# Altium footprint library QUTMS_CANLibrary.PcbLib: 5 footprints
Each footprint in its own frame and in the unit in brackets; x right, y up, seen from the top. Pads: shape width x height; smd on the part's side, far side on the other; paste and mask are expansions set on the pad; w line width, h text height; cw(c..) or ccw(c..) is an arc to the next point about the centre after c.
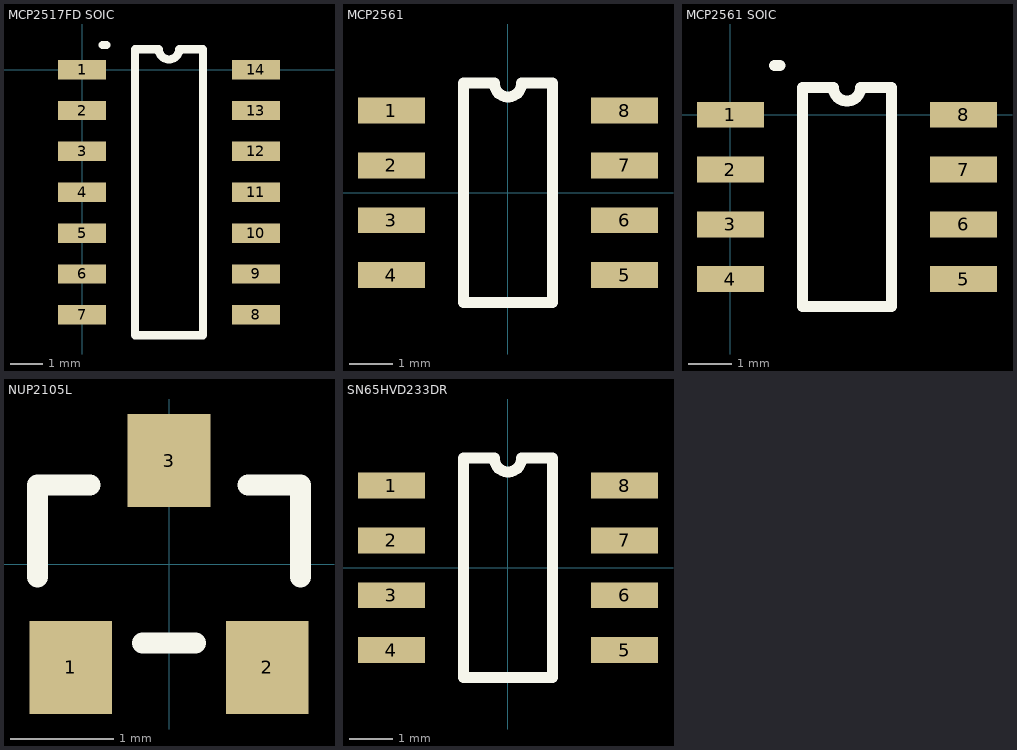
[diagram p0: the footprints below, top view; thin cyan lines are the x and y axes]

## MCP2517FD SOIC [mm]
height 1.75
pads (14):
  rect 1.5x0.6 smd: 1(0,0) 2(0,-1.27) 3(0,-2.54) 4(0,-3.81) 5(0,-5.08) 6(0,-6.35) 7(0,-7.62) 8(5.4,-7.62) 9(5.4,-6.35) 10(5.4,-5.08) 11(5.4,-3.81) 12(5.4,-2.54) 13(5.4,-1.27) 14(5.4,0)
Top Overlay:
  lines w0.254: 0.635,0.762 0.762,0.762 ; 1.639,-8.255 3.761,-8.255 3.761,0.635 3.017,0.635 cw(c2.7,0.635) 2.382,0.635 1.639,0.635 1.639,-8.255
3D body: height 1.74, standoff 0.25, extent 0.742,-8.135 4.642,0.515
3D body: height 0.25, standoff -14.95, extent 0.889,-6.35 0.889,-6.35

## MCP2561 [mm]
pads (8):
  rect 1.55x0.6 smd: 1(-2.7,1.903) 2(-2.7,0.633) 3(-2.7,-0.637) 4(-2.7,-1.907) 5(2.7,-1.907) 6(2.7,-0.637) 7(2.7,0.633) 8(2.7,1.903)
Top Overlay:
  lines w0.254: -1.036,-2.542 1.036,-2.542 1.036,2.538 0.318,2.538 cw(c0,2.538) -0.317,2.538 -1.036,2.538 -1.036,-2.542
3D body "D0008A.stp": height 1.63, standoff 0, extent -3.011,-2.451 3.011,2.451

## MCP2561 SOIC [mm]
pads (8):
  rect 1.55x0.6 smd: 1(0,0) 2(0,-1.27) 3(0,-2.54) 4(0,-3.81) 5(5.4,-3.81) 6(5.4,-2.54) 7(5.4,-1.27) 8(5.4,0)
Top Overlay:
  lines w0.254: 1.016,1.143 1.143,1.143 ; 1.664,-4.445 1.664,-3.175 1.664,-0.635 1.664,0.635 2.382,0.635 ccw(c2.7,0.635) 3.017,0.635 3.736,0.635 3.736,-4.445 1.664,-4.445
3D body: height 0.25, standoff -14.95, extent 0.508,0.508 0.508,0.508
3D body: height 1.65, standoff 0.15, extent 0.742,-4.38 4.642,0.52

## NUP2105L [mm]
pads (3):
  rect 0.8x0.9 smd: 1(-0.95,-1) 2(0.95,-1) 3(0,1)
Top Overlay:
  lines w0.203: -1.27,-0.127 -1.27,0.762 -0.762,0.762 ; -0.254,-0.762 0.254,-0.762 ; 0.762,0.762 1.27,0.762 1.27,-0.127
3D body "SOT-23-3.stp": height 1, standoff 0, extent -1.448,-1.224 1.452,1.176

## SN65HVD233DR [mm]
pads (8):
  rect 1.55x0.6 smd: 1(-2.7,1.903) 2(-2.7,0.633) 3(-2.7,-0.637) 4(-2.7,-1.907) 5(2.7,-1.907) 6(2.7,-0.637) 7(2.7,0.633) 8(2.7,1.903)
Top Overlay:
  lines w0.254: -1.036,-2.542 -1.036,2.538 -0.317,2.538 ccw(c0,2.538) 0.318,2.538 1.036,2.538 1.036,-2.542 -1.036,-2.542
3D body "D0008A.stp": height 1.63, standoff 0, extent -3.011,-2.451 3.012,2.451